# Altium footprint library Fancy.PcbLib: 140 footprints (part 3 of 9)
Each footprint in its own frame and in the unit in brackets; x right, y up, seen from the top. Pads: shape width x height; smd on the part's side, far side on the other; paste and mask are expansions set on the pad; w line width, h text height; cw(c..) or ccw(c..) is an arc to the next point about the centre after c.
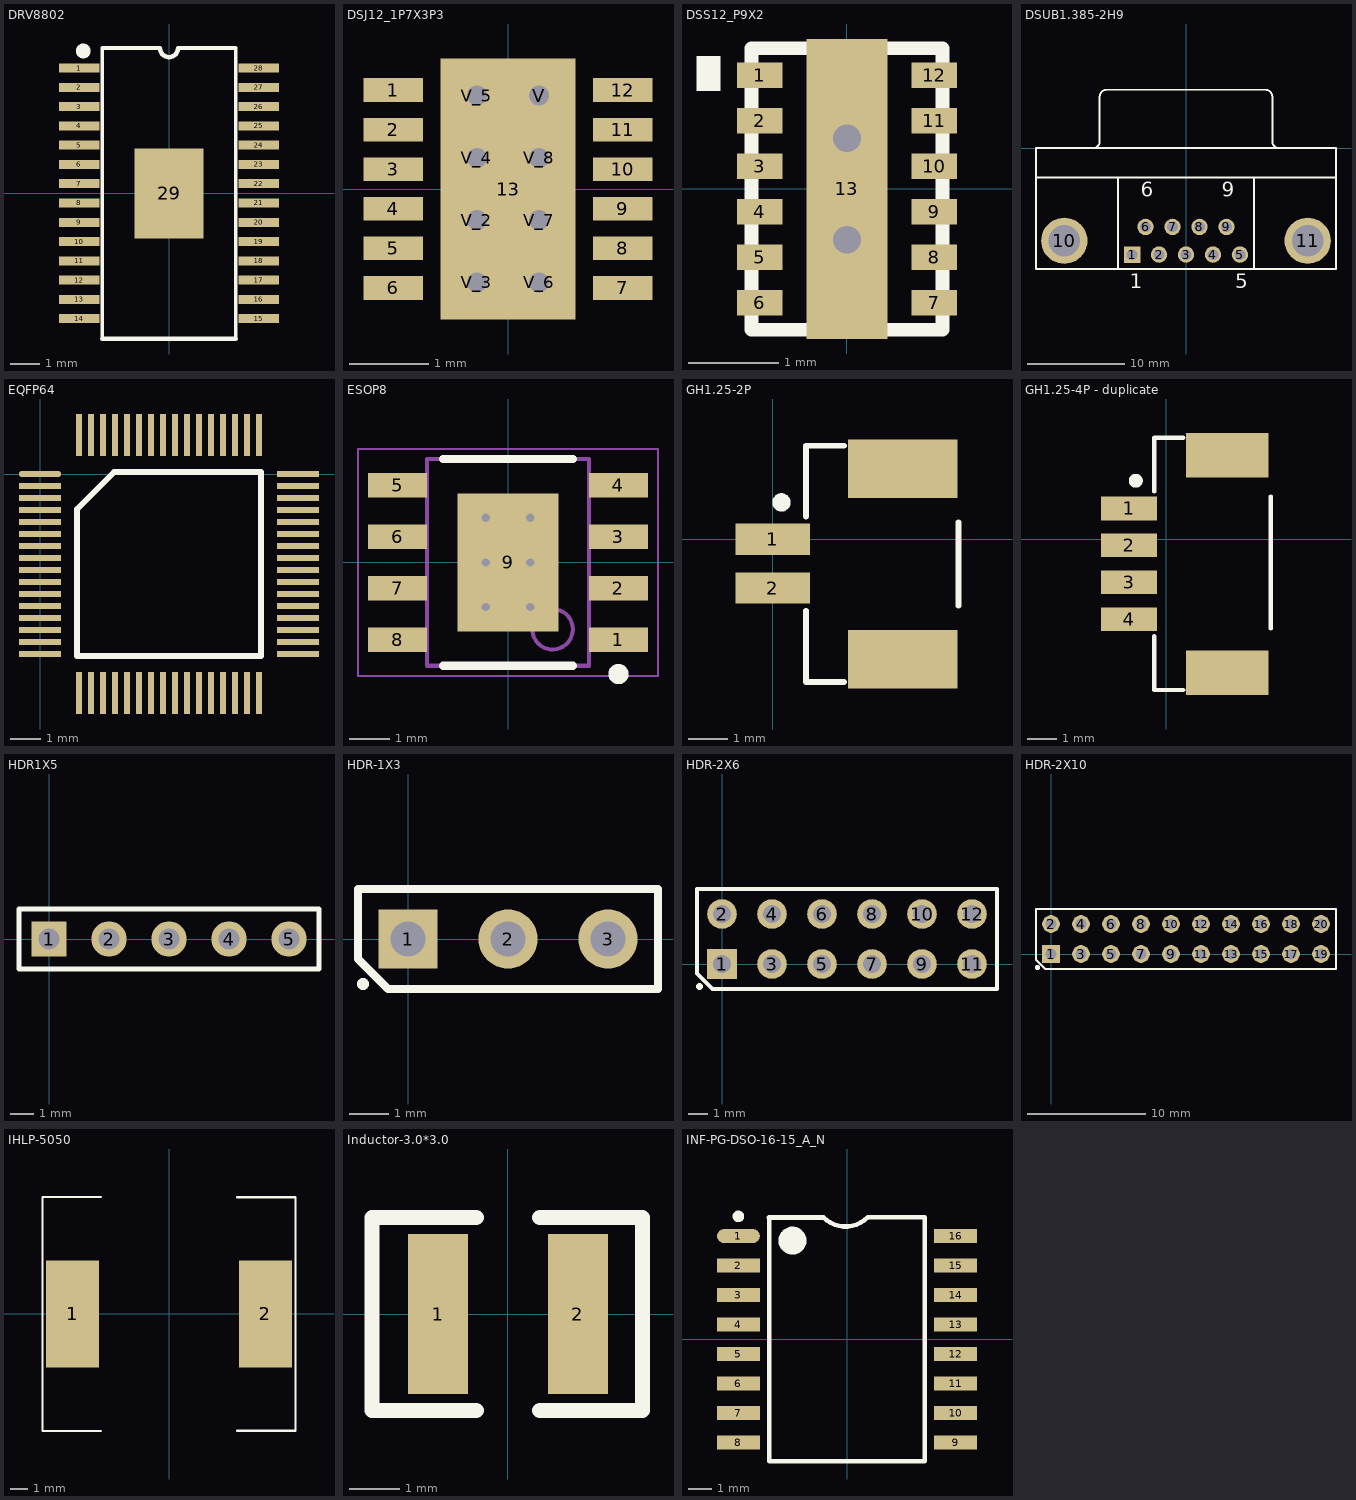
[diagram p2: the footprints below, top view; thin cyan lines are the x and y axes]

## DRV8802 [mil]
pads (29):
  rect 54x12 smd: 1(-119,166.34) 2(-119,140.75) 3(-119,115.16) 4(-119,89.57) 5(-119,63.98) 6(-119,38.39) 7(-119,12.8) 8(-119,-12.8) 9(-119,-38.39) 10(-119,-63.98) 11(-119,-89.57) 12(-119,-115.16) 13(-119,-140.75) 14(-119,-166.34) 15(119,-166.34) 16(119,-140.75) 17(119,-115.16) 18(119,-89.57) 19(119,-63.98) 20(119,-38.39) 21(119,-12.8) 22(119,12.8) 23(119,38.39) 24(119,63.98) 25(119,89.57) 26(119,115.16) 27(119,140.75) 28(119,166.34)
  rect 92.13x119.69 smd: 29(0,0)
Top Overlay:
  circle w9.84: c-113.92,189 r4.92
  lines w5: -88.5,-192.91 -88.5,192.91 -12,192.91 ; 12,192.91 88.5,192.91 88.5,-192.91
  lines w6: -88.5,-192.91 88.5,-192.91 ; -12,192.91 ccw(c0,192.91) 12,192.91

## DSJ12_1P7X3P3 [mil]
pads (21):
  rect 29.69x11.81 smd paste-5.91: 1(-57.01,49.21) 2(-57.01,29.53) 3(-57.01,9.84) 4(-57.01,-9.84) 5(-57.01,-29.53) 6(-57.01,-49.21) 7(57.01,-49.21) 8(57.01,-29.53) 9(57.01,-9.84) 10(57.01,9.84) 11(57.01,29.53) 12(57.01,49.21)
  rect 66.93x129.92 smd paste-64.46 mask-64.5: 13(0,0)
  round 20 / inner round 60 / far side round 20 hole 10: V(15.5,46.5) V_2(-15.5,-15.5) V_3(-15.5,-46.5) V_4(-15.5,15.5) V_5(-15.5,46.5) V_6(15.5,-46.5) V_7(15.5,-15.5) V_8(15.5,15.5)
Top Paste:
  drawing of 27 lines, arcs and shapes, not listed
Top Solder:
  region: -39.41,57.87 -74.61,57.87 -74.61,40.55 -39.41,40.55
  region: -39.41,38.19 -74.61,38.19 -74.61,20.87 -39.41,20.87
  region: -39.41,18.5 -74.61,18.5 -74.61,1.18 -39.41,1.18
  region: -39.41,-1.18 -74.61,-1.18 -74.61,-18.5 -39.41,-18.5
  region: -39.41,-20.87 -74.61,-20.87 -74.61,-38.19 -39.41,-38.19
  region: -39.41,-40.55 -74.61,-40.55 -74.61,-57.87 -39.41,-57.87
  region: 74.61,-40.55 39.41,-40.55 39.41,-57.87 74.61,-57.87
  region: 74.61,-20.87 39.41,-20.87 39.41,-38.19 74.61,-38.19
  region: 74.61,-1.18 39.41,-1.18 39.41,-18.5 74.61,-18.5
  region: 74.61,18.5 39.41,18.5 39.41,1.18 74.61,1.18
  region: 74.61,38.19 39.41,38.19 39.41,20.87 74.61,20.87
  region: 74.61,57.87 39.41,57.87 39.41,40.55 74.61,40.55
  region: -35.96,54.37 -35.96,67.46 35.96,67.46 35.96,54.37
  region: -35.96,23.37 -35.96,38.63 35.96,38.63 35.96,23.37
  region: -35.96,-7.63 -35.96,7.63 35.96,7.63 35.96,-7.63
  region: -35.96,-38.63 -35.96,-23.37 35.96,-23.37 35.96,-38.63
  region: -35.96,-67.46 -35.96,-54.37 35.96,-54.37 35.96,-67.46
  region: -35.96,-67.46 -35.96,67.46 -23.37,67.46 -23.37,-67.46
  region: 7.63,-67.46 7.63,67.46 -7.63,67.46 -7.63,-67.46
  region: 23.37,-67.46 23.37,67.46 35.96,67.46 35.96,-67.46
  region: 0,64.96
  region: 0,-64.96

## DSS12_P9X2 [mm]
pads (13):
  rect 0.5x0.28 smd: 1(-0.959,1.25) 2(-0.959,0.75) 3(-0.959,0.25) 4(-0.959,-0.25) 5(-0.959,-0.75) 6(-0.959,-1.25) 7(0.959,-1.25) 8(0.959,-0.75) 9(0.959,-0.25) 10(0.959,0.25) 11(0.959,0.75) 12(0.959,1.25)
  rect 0.889x3.302 smd: 13(0,0)
via 0,0.559 diameter 0.61 hole 0.305
via 0,-0.559 diameter 0.61 hole 0.305
Top Overlay:
  region: -1.651,1.46 -1.397,1.46 -1.397,1.079 -1.651,1.079
  lines w0.152: -0.451,1.55 -1.05,1.55 -1.05,-1.55 -0.402,-1.55 ; 0.402,1.55 1.05,1.55 1.05,-1.55 0.451,-1.55

## DSUB1.385-2H9 [mm] "Connector; D Subminiature; 9 Position; Right Angle; Pitch 1.385 mm"
height 12.75
pads (11):
  rect 1.69x1.69 hole 1.09: 1(-5.54,-10.92)
  round 1.69 hole 1.09: 2(-2.77,-10.92) 3(0,-10.92) 4(2.77,-10.92) 5(5.54,-10.92) 6(-4.155,-8.08) 7(-1.385,-8.08) 8(1.385,-8.08) 9(4.155,-8.08)
  round 4.76 hole 3.26: 10(-12.495,-9.5) 11(12.495,-9.5)
Top Overlay:
  lines w0.2: -15.4,-3 15.4,-3 ; -9.56,0.005 ccw(c-9.56,0.7) -8.865,0.7 -8.865,5.3 ; -8.86,5.305 cw(c-8.165,5.305) -8.165,6 8.165,6 cw(c8.165,5.305) 8.86,5.305 ; -7,-12.4 -7,-3 ; 7,-12.4 7,-3 ; 8.865,5.3 8.865,0.7 ccw(c9.56,0.7) 9.56,0.005 ; -15.4,-12.4 -15.4,0 15.4,0 15.4,-12.4 -15.4,-12.4
  text "1" at -5.79,-14.375 h1.5
  text "5" at 5.04,-14.375 h1.5
  text "9" at 3.655,-4.975 h1.5
  text "6" at -4.655,-4.975 h1.5

## EQFP64 [mm]
pads (64):
  oval 1.4x0.2 smd: 1(0,0)
  rect 1.4x0.2 smd: 2(0,-0.4) 3(0,-0.8) 4(0,-1.2) 5(0,-1.6) 6(0,-2) 7(0,-2.4) 8(0,-2.8) 9(0,-3.2) 10(0,-3.6) 11(0,-4) 12(0,-4.4) 13(0,-4.8) 14(0,-5.2) 15(0,-5.6) 16(0,-6) 33(8.6,-6) 34(8.6,-5.6) 35(8.6,-5.2) 36(8.6,-4.8) 37(8.6,-4.4) 38(8.6,-4) 39(8.6,-3.6) 40(8.6,-3.2) 41(8.6,-2.8) 42(8.6,-2.4) 43(8.6,-2) 44(8.6,-1.6) 45(8.6,-1.2) 46(8.6,-0.8) 47(8.6,-0.4) 48(8.6,0)
  rect 0.2x1.4 smd: 17(1.3,-7.3) 18(1.7,-7.3) 19(2.1,-7.3) 20(2.5,-7.3) 21(2.9,-7.3) 22(3.3,-7.3) 23(3.7,-7.3) 24(4.1,-7.3) 25(4.5,-7.3) 26(4.9,-7.3) 27(5.3,-7.3) 28(5.7,-7.3) 29(6.1,-7.3) 30(6.5,-7.3) 31(6.9,-7.3) 32(7.3,-7.3) 49(7.3,1.3) 50(6.9,1.3) 51(6.5,1.3) 52(6.1,1.3) 53(5.7,1.3) 54(5.3,1.3) 55(4.9,1.3) 56(4.5,1.3) 57(4.1,1.3) 58(3.7,1.3) 59(3.3,1.3) 60(2.9,1.3) 61(2.5,1.3) 62(2.1,1.3) 63(1.7,1.3) 64(1.3,1.3)
Top Overlay:
  lines w0.2: 1.235,-6.065 1.235,-1.17 2.47,0.065 7.365,0.065 7.365,-6.065 1.235,-6.065

## ESOP8 [mm] "SOP, 8-Leads, Body 4.90x3.90mm, Pitch 1.27mm, Thermal Pad 3.40x2.50mm, IPC Medium Density"
height 1.7
pads (9):
  rect 1.45x0.6 smd: 1(2.725,-1.905) 2(2.725,-0.635) 3(2.725,0.635) 4(2.725,1.905) 5(-2.725,1.905) 6(-2.725,0.635) 7(-2.725,-0.635) 8(-2.725,-1.905)
  rect 2.5x3.4 smd: 9(0,0)
via -0.55,1.1 diameter 0.5 hole 0.2
via 0.55,1.1 diameter 0.5 hole 0.2
via -0.55,0 diameter 0.5 hole 0.2
via 0.55,0 diameter 0.5 hole 0.2
via -0.55,-1.1 diameter 0.5 hole 0.2
via 0.55,-1.1 diameter 0.5 hole 0.2
Top Overlay:
  circle w0.25: c2.725,-2.755 r0.125
  lines w0.2: -1.6,-2.55 1.6,-2.55 ; -1.6,2.55 1.6,2.55
Mechanical 4:
  circle w0.1: c1.1,-1.65 r0.5
  lines w0.1: -2,-2.55 2,-2.55 2,2.55 -2,2.55 -2,-2.55
Mechanical 6:
  lines w0.05: -3.7,-2.8 3.7,-2.8 3.7,2.8 -3.7,2.8 -3.7,-2.8
  lines w0.1: -0.5,0 0.5,0 ; 0,-0.5 0,0.5
3D body: height 1.7, standoff 0.1, extent -2,-2.55 2,2.55

## GH1.25-2P [mm] "卧贴与立贴封装相同"
pads (4):
  rect 1.9x0.8 smd paste+0 mask+0.102: 1(0,0) 2(0,-1.25)
  rect 2.8x1.5 smd paste+0 mask+0.102: ""(3.324,-3.069) ""(3.324,1.799)
Top Overlay:
  circle w0.254: c0.225,0.939 r0.108
  lines w0.15: 0.85,-1.829 0.85,-3.65 1.825,-3.65 ; 0.85,0.575 0.85,2.388 1.825,2.388 ; 4.75,-1.702 4.75,0.432

## GH1.25-4P - duplicate [mm]
pads (6):
  rect 1.9x0.8 smd paste+0 mask+0.102: 1(-1.26,1.04) 2(-1.26,-0.21) 3(-1.26,-1.46) 4(-1.26,-2.71)
  rect 2.8x1.5 smd paste+0 mask+0.102: ""(2.064,-4.519) ""(2.064,2.839)
Top Overlay:
  circle w0.254: c-1.035,1.979 r0.108
  lines w0.15: -0.41,-3.285 -0.41,-5.107 0.565,-5.107 ; -0.41,1.615 -0.41,3.428 0.565,3.428 ; 3.537,-3.024 3.537,1.446
3D body "User Library-SM04B-GHS-TB.step": height 4.25, standoff -0.1, extent -1.55,-5.035 3.3,3.215

## HC-05 [mm]

## HDR1X5 [mm] "Connector; Header; 5 Position"
pads (5):
  rect 1.5x1.5 hole 0.9: 1(0,0)
  round 1.5 hole 0.9: 2(2.54,0) 3(5.08,0) 4(7.62,0) 5(10.16,0)
Top Overlay:
  lines w0.2: -1.27,-1.27 11.43,-1.27 11.43,1.27 -1.27,1.27 -1.27,-1.27

## HDR-1X3 [mm] "Connector; Header; 3 Position"
pads (3):
  rect 1.5x1.5 hole 0.9: 1(0,0)
  round 1.5 hole 0.9: 2(2.54,0) 3(5.08,0)
Top Overlay:
  circle w0.254: c-1.143,-1.143 r0.025
  lines w0.2: -1.27,-0.508 -0.508,-1.27 6.35,-1.27 6.35,1.27 -1.27,1.27 -1.27,-0.508

## HDR-2X6 [mm] "Connector; Header; 6x2 Position"
pads (12):
  rect 1.5x1.5 hole 0.9: 1(0,0)
  round 1.5 hole 0.9: 2(0,2.54) 3(2.54,0) 4(2.54,2.54) 5(5.08,0) 6(5.08,2.54) 7(7.62,0) 8(7.62,2.54) 9(10.16,0) 10(10.16,2.54) 11(12.7,0) 12(12.7,2.54)
Top Overlay:
  circle w0.254: c-1.143,-1.143 r0.051
  lines w0.2: -1.27,-0.483 -1.27,3.81 13.97,3.81 13.97,-1.27 -0.483,-1.27 -1.27,-0.483

## HDR-2X10 [mm] "Connector; Header; 10x2 Position"
pads (20):
  rect 1.5x1.5 hole 0.9: 1(0,0)
  round 1.5 hole 0.9: 2(0,2.54) 3(2.54,0) 4(2.54,2.54) 5(5.08,0) 6(5.08,2.54) 7(7.62,0) 8(7.62,2.54) 9(10.16,0) 10(10.16,2.54) 11(12.7,0) 12(12.7,2.54) 13(15.24,0) 14(15.24,2.54) 15(17.78,0) 16(17.78,2.54) 17(20.32,0) 18(20.32,2.54) 19(22.86,0) 20(22.86,2.54)
Top Overlay:
  circle w0.254: c-1.143,-1.143 r0.105
  lines w0.2: -1.27,-0.483 -0.483,-1.27 0.635,-1.27 24.13,-1.27 24.13,3.81 0.635,3.81 -1.27,3.81 -1.27,-0.483

## IHLP-5050 [mm]
pads (2):
  rect 2.945x6 smd: 1(-5.41,0) 2(5.41,0)
Top Overlay:
  lines w0.127: -3.81,-6.579 -7.087,-6.579 -7.087,6.553 -3.81,6.553 ; 3.81,-6.553 7.087,-6.553 7.087,6.528 3.81,6.528

## Inductor-3.0*3.0 [mm] "Body 3.0x 3.0mm (LxW typ)"
height 1.7
pads (2):
  rect 1.2x3.2 smd: 1(-1.397,0) 2(1.4,0)
Top Overlay:
  lines w0.305: -0.635,-1.93 -2.718,-1.93 -2.718,1.93 -0.635,1.93 ; 0.635,-1.93 2.692,-1.93 2.692,1.93 0.635,1.93

## INF-PG-DSO-16-15_A_N [mm] "SOP, 16-Leads, Body 10.34x7.505mm, Pitch 1.27mm, IPC Medium Density"
height 2.64
pads (16):
  oval 1.85x0.6 smd: 1(-4.675,4.445)
  rect 1.85x0.6 smd: 2(-4.675,3.175) 3(-4.675,1.905) 4(-4.675,0.635) 5(-4.675,-0.635) 6(-4.675,-1.905) 7(-4.675,-3.175) 8(-4.675,-4.445) 9(4.675,-4.445) 10(4.675,-3.175) 11(4.675,-1.905) 12(4.675,-0.635) 13(4.675,0.635) 14(4.675,1.905) 15(4.675,3.175) 16(4.675,4.445)
Top Overlay:
  circle w0.6: c-2.35,4.25 r0.3
  circle w0.25: c-4.675,5.295 r0.125
  lines w0.2: -3.35,5.25 -3.35,-5.25 3.35,-5.25 3.35,5.25 0.889,5.25 cw(c-0.064,6.202) -1.016,5.25
  lines w0.213: -3.35,5.25 -1.016,5.25